# EAGLE library part OLED-2.7 (library dadamachines)
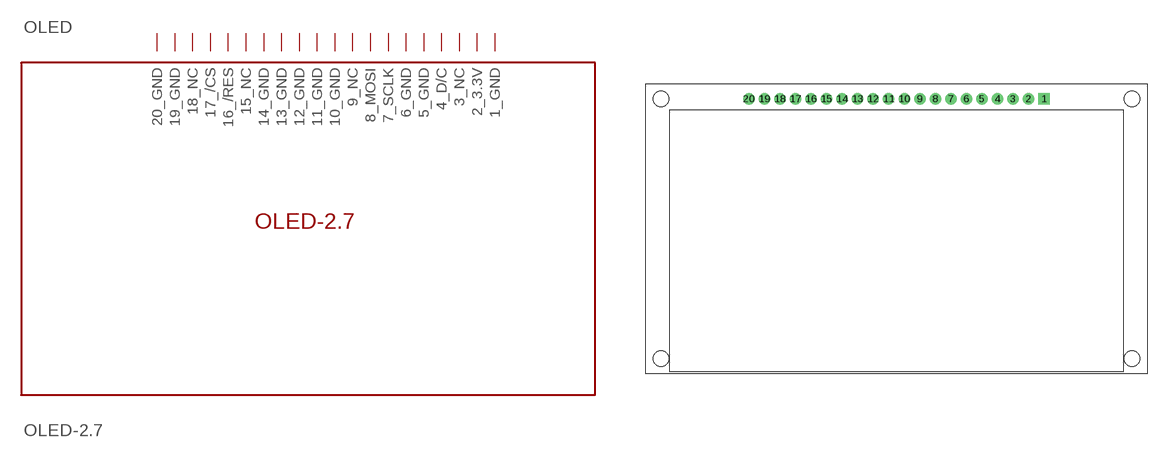
[diagram p29: symbol with the pads of OLED-2.7; footprint OLED-2.7]

Designator prefix OLED

## OLED-2.7  [OLED-2.7]
1  1_GND  pwr
2  2_3.3V  pwr
3  3_NC
4  4_D/C
5  5_GND
6  6_GND
7  7_SCLK
8  8_MOSI
9  9_NC
10  10_GND
11  11_GND
12  12_GND
13  13_GND
14  14_GND
15  15_NC
16  16_/RES
17  17_/CS
18  18_NC
19  19_GND
20  20_GND

## Footprint OLED-2.7 (pad centres in mm)
drill 1.016 pad 1.88 square: 1 24.13,21.25
drill 1.016 pad 1.88: 2 21.59,21.25; 3 19.05,21.25; 4 16.51,21.25; 5 13.97,21.25; 6 11.43,21.25; 7 8.89,21.25; 8 6.35,21.25; 9 3.81,21.25; 10 1.27,21.25; 11 -1.27,21.25; 12 -3.81,21.25; 13 -6.35,21.25; 14 -8.89,21.25; 15 -11.43,21.25; 16 -13.97,21.25; 17 -16.51,21.25; 18 -19.05,21.25; 19 -21.59,21.25; 20 -24.13,21.25
hole 2.6 at -38.5,21.25
hole 2.6 at -38.5,-21.25
hole 2.6 at 38.5,21.25
hole 2.6 at 38.5,-21.25